# EAGLE library part AD8237 (library analog-devices)
Amplificateur d'instrumentation, 1 amplificateur, 30 µV, 0.05 V/µs, 200 kHz, 1.8V à 5.5V, MSOP
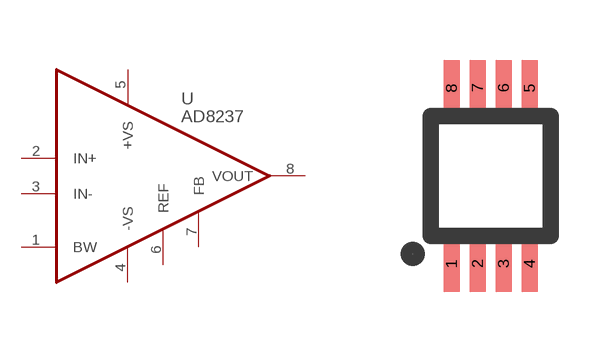
[diagram p0: symbol with the pads of RM-8; footprint RM-8]

Designator prefix U

## AD8237  [RM-8]
1  BW
2  IN+
3  IN-
4  -VS
5  +VS
6  REF
7  FB
8  VOUT

## Footprint RM-8 (pad centres in mm)
smd 0.4 x 1.4: 1 -0.975,-2.2; 2 -0.325,-2.2; 3 0.325,-2.2; 4 0.975,-2.2; 5 0.975,2.2; 6 0.325,2.2; 7 -0.325,2.2; 8 -0.975,2.2